# Altium schematic symbol library Schlib1.SchLib: 2 symbols
Pins are listed as number, name and electrical type; pins without a type are passive.

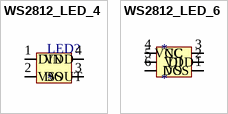
[diagram p0: symbols WS2812_LED_4 to WS2812_LED_6]

## WS2812_LED_4
designator LED?
footprint WS2812_LED_4
pins: 1 VDD, 2 DOUT, 3 VSS, 4 DIN

## WS2812_LED_6
designator *
footprint WS2812_LED_6
pins: 1 DO, 2 DI, 3 VCC, 4 NC, 5 VDD, 6 VSS